# EAGLE library part CON8 (library simple-parts)
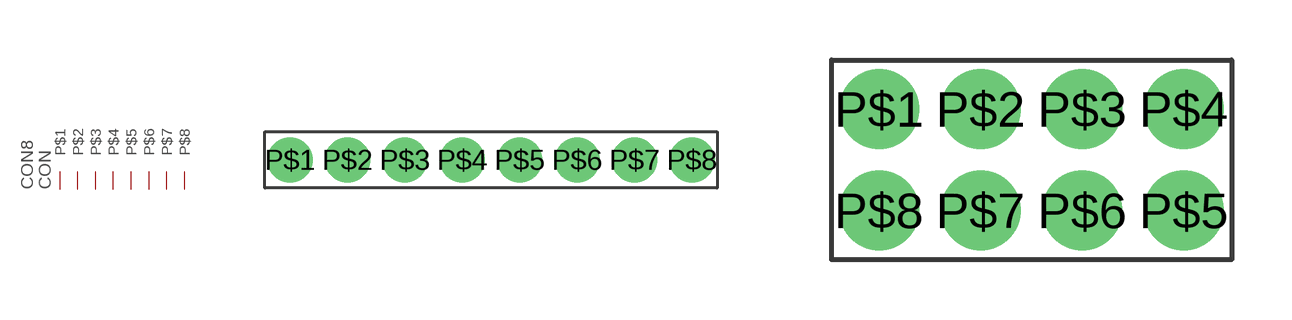
[diagram p4: symbol with the pads of PINPLUG8; footprints PINPLUG8, PINPLUG4X2]

Designator prefix CON

## CON8PINPLUG8  [PINPLUG8]
P$1  P$1
P$2  P$2
P$3  P$3
P$4  P$4
P$5  P$5
P$6  P$6
P$7  P$7
P$8  P$8

## CON8PINPLUG4X2  [PINPLUG4X2]
Pads as for PINPLUG8

## CON8ICMOUNT8  [ICMOUNT8]
Pads as for PINPLUG8

## Footprint PINPLUG8 (pad centres in mm)
drill 0.9 pad 2: P$1 -8.89,0; P$2 -6.35,0; P$3 -3.81,0; P$4 -1.27,0; P$5 1.27,0; P$6 3.81,0; P$7 6.35,0; P$8 8.89,0

## Footprint PINPLUG4X2 (pad centres in mm)
drill 0.9 pad 2: P$1 -3.81,1.27; P$2 -1.27,1.27; P$3 1.27,1.27; P$4 3.81,1.27; P$5 3.81,-1.27; P$6 1.27,-1.27; P$7 -1.27,-1.27; P$8 -3.81,-1.27

## Footprint ICMOUNT8 (pad centres in mm)
drill 0.9 pad 2 offset: P$1 -3.81,-3.81; P$2 -1.27,-3.81; P$3 1.27,-3.81; P$4 3.81,-3.81; P$5 3.81,3.81; P$6 1.27,3.81; P$7 -1.27,3.81; P$8 -3.81,3.81